# Altium footprint library 10S_BYS_PcbLib1.PcbLib: 33 footprints (part 1 of 3)
Each footprint in its own frame and in the unit in brackets; x right, y up, seen from the top. Pads: shape width x height; smd on the part's side, far side on the other; paste and mask are expansions set on the pad; w line width, h text height; cw(c..) or ccw(c..) is an arc to the next point about the centre after c.
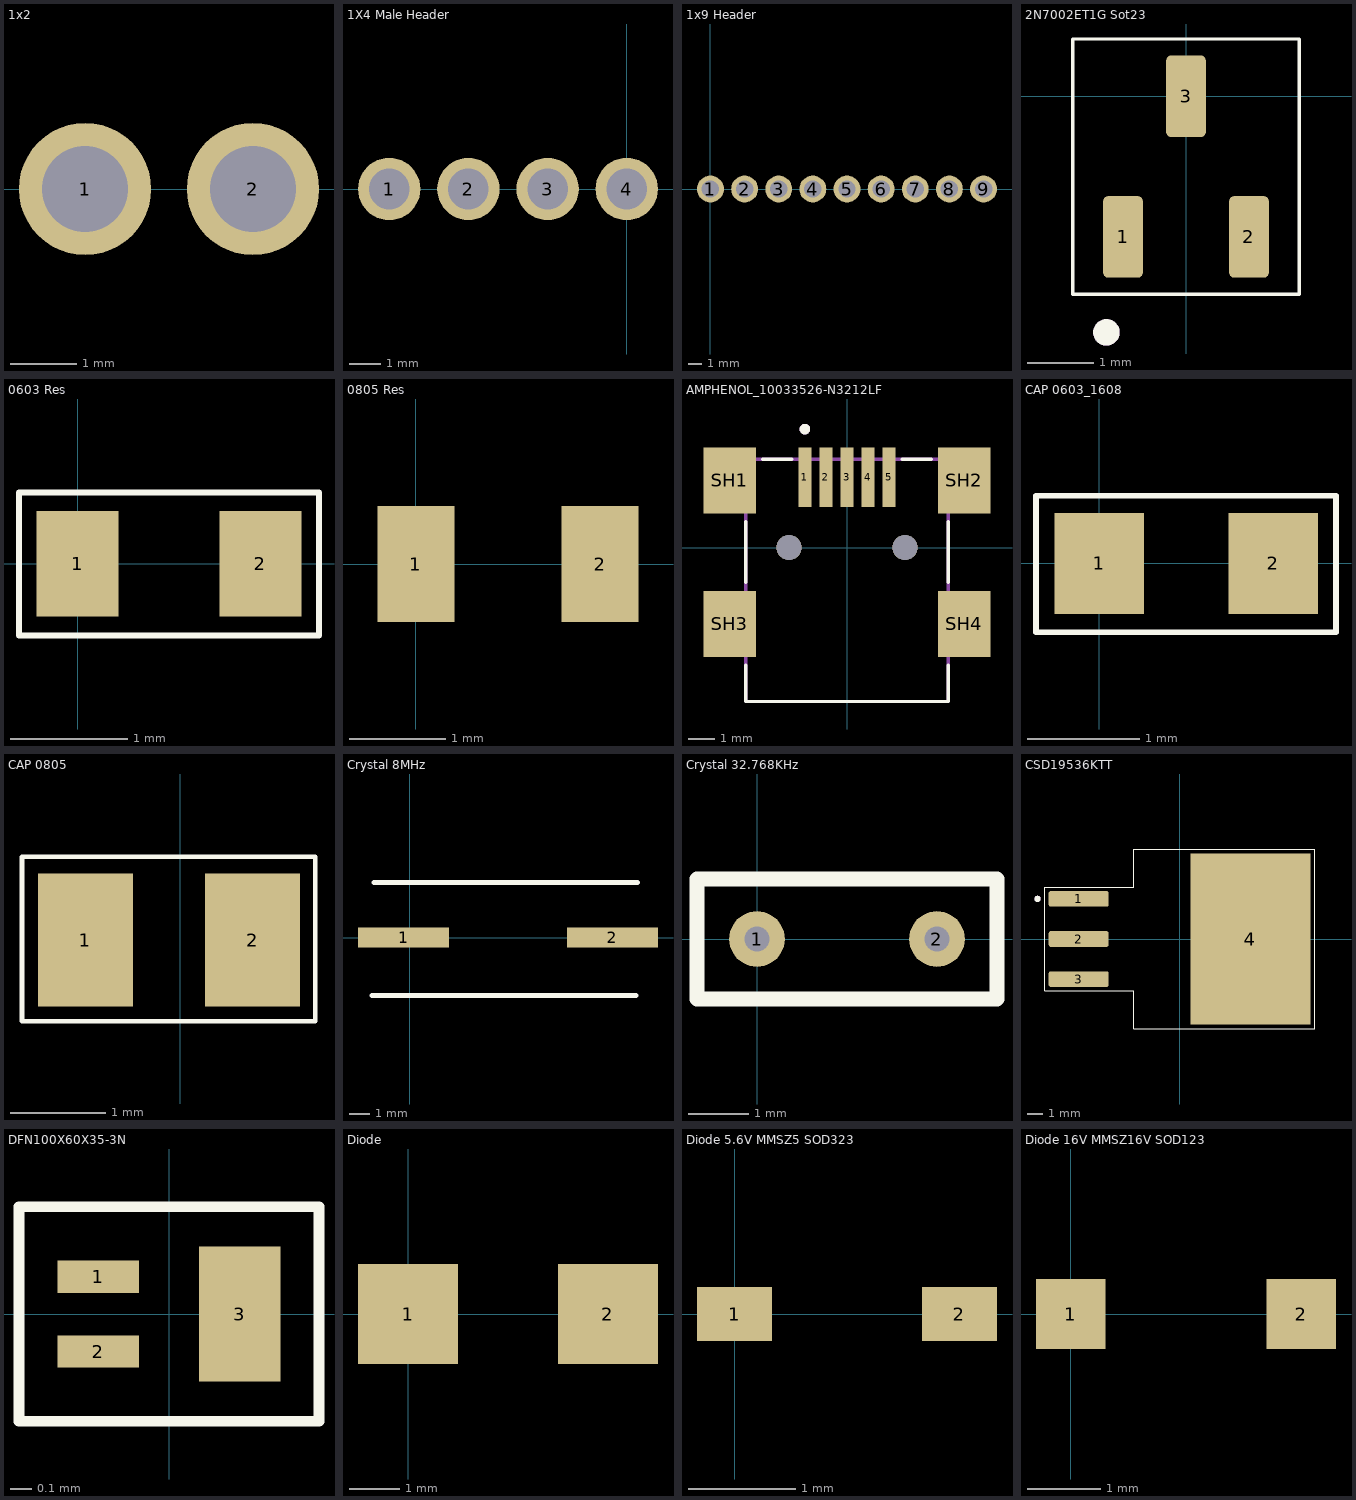
[diagram p0: the footprints below, top view; thin cyan lines are the x and y axes]

## 1x2 [mm]
pads (2):
  round 2 hole 1.3: 1(-7.62,0) 2(-5.08,0)

## 1X4 Male Header [mm]
pads (4):
  round 2 hole 1.3: 1(-7.62,0) 2(-5.08,0) 3(-2.54,0) 4(0,0)
3D body "JST-S4B-EH-A.STEP": height 4.2, standoff -3.2, extent -10.016,-6.697 2.484,1.503

## 1x9 Header [mm]
pads (9):
  round 2 hole 1.3: 1(0,0) 2(2.54,0) 3(5.08,0) 4(7.62,0) 5(10.16,0) 6(12.7,0) 7(15.24,0) 8(17.78,0) 9(20.32,0)
3D body "Pin Header 1x9 TH Pitch 2.54mm.stp": height 9.5, standoff -3.2, extent -1.27,-1.27 21.59,1.27

## 2N7002ET1G Sot23 [mm]
pads (3):
  rrect25% 0.6x1.23 smd: 1(-0.95,-2.12) 2(0.95,-2.12) 3(0,0)
Top Overlay:
  circle w0.2: c-1.2,-3.56 r0.1
  lines w0.05: -1.71,-2.985 1.71,-2.985 1.71,0.865 -1.71,0.865 -1.71,-2.985
Mechanical 13:
  circle w0.2: c-1.2,-3.56 r0.1
3D body "CircuitWorks-SOT-23.STEP": height 1.05, standoff -0.05, extent -1.476,-2.52 1.524,-0.02

## 0603 Res [mm]
pads (2):
  rect 0.7x0.9 smd: 1(0,0) 2(1.56,0)
Top Overlay:
  lines w0.05: -0.5,-0.612 2.061,-0.612 2.061,0.606 -0.5,0.606 -0.5,-0.612
3D body "User Library-CR1608-0603.STEP": height 0.45, standoff 0, extent -0.05,-0.4 1.55,0.4

## 0805 Res [mm]
pads (2):
  rect 0.8x1.2 smd: 1(0,0) 2(1.91,0)
3D body "0805.step": height 0.55, standoff 0, extent 0,-0.6 2,0.6

## AMPHENOL_10033526-N3212LF [mm]
height 3.95
pads (11):
  rect 0.5x2.25 smd: 1(-1.6,2.675) 2(-0.8,2.675) 3(0,2.675) 4(0.8,2.675) 5(1.6,2.675)
  rect 2x2.5 smd: SH1(-4.45,2.55) SH2(4.45,2.55) SH3(-4.45,-2.9) SH4(4.45,-2.9)
  round 0.95 hole 0.95 unplated: ""(-2.2,0) ""(2.2,0)
Top Overlay:
  circle w0.2: c-1.6,4.5 r0.1
  lines w0.127: -3.85,-4.47 -3.85,-5.85 3.85,-5.85 3.85,-4.47 ; -3.85,-1.33 -3.85,0.98 ; -3.21,3.35 -2.1,3.35 ; 2.1,3.35 3.21,3.35 ; 3.85,-1.33 3.85,0.98
Mechanical 13:
  circle w0.2: c-1.6,4.5 r0.1
  lines w0.127: -3.85,-5.85 3.85,-5.85 3.85,-5.34 3.85,3.35 -3.85,3.35 -3.85,-5.85
3D body "USB_Mini_B_SMD_buchse.STEP": height 3.95, standoff -0.01, extent -4.999,-5.453 5.001,3.447

## CAP 0603_1608 [mm] "Chip Capacitor, 2-Leads, Body 1.60x0.80mm, IPC Medium Density"
height 0.89
pads (2):
  rect 0.8x0.9 smd: 1(0,0) 2(1.55,0)
Top Overlay:
  lines w0.05: -0.563,-0.615 -0.563,0.604 2.108,0.604 2.108,-0.615 -0.563,-0.615
3D body "0603 cap.STEP": height 0.82, standoff 0, extent -0.05,-0.412 1.55,0.412

## CAP 0805 [mm]
pads (2):
  rect 1x1.4 smd: 1(-1,-2.5) 2(0.76,-2.5)
Top Overlay:
  lines w0.05: -1.668,-3.355 -1.668,-1.621 1.422,-1.621 1.422,-3.355 -1.668,-3.355
3D body "CircuitWorks-CAPACITOR 0805.STEP": height 0.73, standoff -0.03, extent -1,-3.155 1,-1.845

## Crystal 8MHz [mm]
pads (2):
  rect 4.5x1 smd: 1(-0.3,0) 2(10,0)
Top Overlay:
  lines w0.254: -1.849,-2.864 11.156,-2.864 ; -1.766,2.722 11.239,2.722
3D body "smdcrystal.STEP": height 3.85, standoff 0, extent -2,-2.4 11.58,2.4

## Crystal 32.768KHz [mm]
pads (2):
  round 0.928 hole 0.42: 1(0,0) 2(3,0)
Top Overlay:
  lines w0.254: -1,-1 4,-1 4,1 -1,1 -1,-1
3D body "User Library-DT-26-1.STEP": height 2.99, standoff -1, extent 0.476,-6.996 2.476,0.143

## CSD19536KTT [mm]
pads (4):
  rrect25% 3.79x0.99 smd: 1(-6.4,2.54) 2(-6.4,0) 3(-6.4,-2.54)
  rect 7.62x10.84 smd paste-6: 4(4.48,0)
Top Overlay:
  circle w0.2: c-9,2.54 r0.1
  lines w0.05: -8.545,-3.285 -2.898,-3.285 -2.898,-5.67 8.54,-5.67 8.54,5.67 -2.898,5.67 -2.898,3.285 -8.545,3.285 -8.545,-3.285
Top Paste:
  region: 2.665,-5.13 1.215,-5.13 1.215,-3.87 2.665,-3.87
  region: 2.665,-3.33 1.215,-3.33 1.215,-2.07 2.665,-2.07
  region: 2.665,-1.53 1.215,-1.53 1.215,-0.27 2.665,-0.27
  region: 2.665,3.87 1.215,3.87 1.215,5.13 2.665,5.13
  region: 2.665,2.07 1.215,2.07 1.215,3.33 2.665,3.33
  region: 2.665,0.27 1.215,0.27 1.215,1.53 2.665,1.53
  region: 7.745,-5.13 6.295,-5.13 6.295,-3.87 7.745,-3.87
  region: 7.745,-3.33 6.295,-3.33 6.295,-2.07 7.745,-2.07
  region: 7.745,-1.53 6.295,-1.53 6.295,-0.27 7.745,-0.27
  region: 7.745,3.87 6.295,3.87 6.295,5.13 7.745,5.13
  region: 7.745,2.07 6.295,2.07 6.295,3.33 7.745,3.33
  region: 7.745,0.27 6.295,0.27 6.295,1.53 7.745,1.53
  region: 5.205,-5.13 3.755,-5.13 3.755,-3.87 5.205,-3.87
  region: 5.205,-3.33 3.755,-3.33 3.755,-2.07 5.205,-2.07
  region: 5.205,-1.53 3.755,-1.53 3.755,-0.27 5.205,-0.27
  region: 5.205,3.87 3.755,3.87 3.755,5.13 5.205,5.13
  region: 5.205,2.07 3.755,2.07 3.755,3.33 5.205,3.33
  region: 5.205,0.27 3.755,0.27 3.755,1.53 5.205,1.53
Mechanical 13:
  circle w0.2: c-9,2.54 r0.1
3D body "User Library-TO-263-3.STEP": height 4.6, standoff 0, extent -6.8,-5.15 8.3,5.15

## DFN100X60X35-3N [mm]
pads (3):
  rect 0.38x0.15 smd mask+0.065: 1(-0.33,0.174) 2(-0.33,-0.175)
  rect 0.38x0.63 smd: 3(0.33,0)
Top Overlay:
  lines w0.05: -0.7,-0.5 -0.7,0.5 0.7,0.5 0.7,-0.5 -0.7,-0.5
3D body "3-XFDFN.STEP": height 0.37, standoff -0.02, extent -0.394,-0.301 0.426,0.299

## Diode [mm]
pads (2):
  rect 2x2 smd: 1(0,0) 2(4,0)
3D body "User Library-DO-214AC SMA.STEP": height 2.5, standoff 0.1, extent -0.6,-1.3 4.6,1.3

## Diode 5.6V MMSZ5 SOD323 [mm]
pads (2):
  rect 0.7x0.5 smd: 1(0,0) 2(2.1,0)
3D body "SOD-323.STEP": height 1.17, standoff 0.02, extent -0.244,-0.711 2.456,0.736

## Diode 16V MMSZ16V SOD123 [mm]
pads (2):
  rect 0.95x0.95 smd: 1(0,0) 2(3.15,0)
3D body "User Library-SOD123-1.STEP": height 1.18, standoff 0, extent -0.45,-0.9 3.45,0.9